# EAGLE library part CNHDR016M1 (library Traficon)
16 pins Header 2x8 - 2mm - 17,35mm high (MALE)
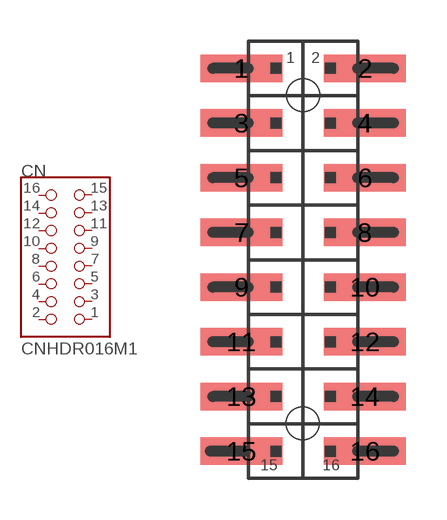
[diagram p17: symbol with the pads of 2MMHEAD_SMD2X8; footprint 2MMHEAD_SMD2X8]

Designator prefix CN

## CNHDR016M1  [2MMHEAD_SMD2X8]
1  1  pas
2  2  pas
3  3  pas
4  4  pas
5  5  pas
6  6  pas
7  7  pas
8  8  pas
9  9  pas
10  10  pas
11  11  pas
12  12  pas
13  13  pas
14  14  pas
15  15  pas
16  16  pas

## Footprint 2MMHEAD_SMD2X8 (pad centres in mm)
CT: 2/04/08: rotated component 180°, because it's more logical to have the first pin on the top left.
smd 3 x 1: 1 -2.26,7; 2 2.26,7; 3 -2.26,5; 4 2.26,5; 5 -2.26,3; 6 2.26,3; 7 -2.26,1; 8 2.26,1; 9 -2.26,-1; 10 2.26,-1; 11 -2.26,-3; 12 2.26,-3; 13 -2.26,-5; 14 2.26,-5; 15 -2.26,-7; 16 2.26,-7
hole 1.2 at -0.02,-5.98
hole 1.2 at 0,6.02